# Altium schematic symbol library GOSTVoltageReference.SchLib: 1 symbol
Pins are listed as number, name and electrical type; pins without a type are passive.

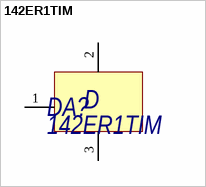
[diagram p0: symbol 142ER1TIM]

## 142ER1TIM
designator DA?
Прецезионный источник опорного напряжения
pins: 1, 2, 3
text: D